# Altium footprint library TCM1210.PcbLib: 1 footprints
Each footprint in its own frame and in the unit in brackets; x right, y up, seen from the top. Pads: shape width x height; smd on the part's side, far side on the other; paste and mask are expansions set on the pad; w line width, h text height; cw(c..) or ccw(c..) is an arc to the next point about the centre after c.
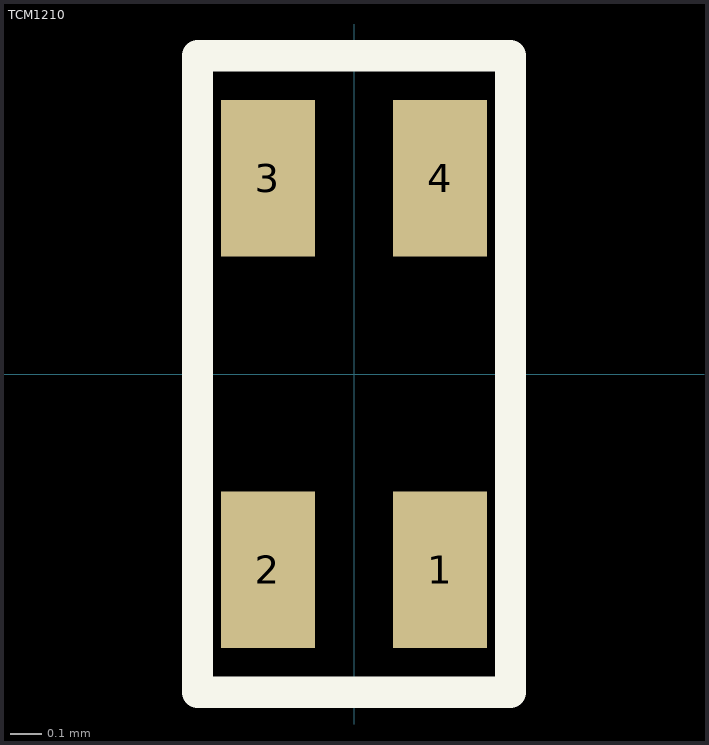
[diagram p0: the footprint, top view; thin cyan lines are the x and y axes]

## TCM1210 [mm]
pads (4):
  rect 0.3x0.5 smd: 1(0.275,-0.625) 2(-0.275,-0.625) 3(-0.275,0.625) 4(0.275,0.625)
Top Overlay:
  lines w0.1: -0.5,-1.016 -0.5,1.016 0.5,1.016 0.5,-1.016 -0.5,-1.016
3D body: height 0.6, standoff 0, extent -0.508,-0.635 0.508,0.635